# EAGLE library part WMOI3 (library WMOi3)
Wavecom WMOi3 GSM Modem connected with ribbon cable to Harwin M50-3602542 1.27mm Pitch DIL Surface Mount Pin Header.
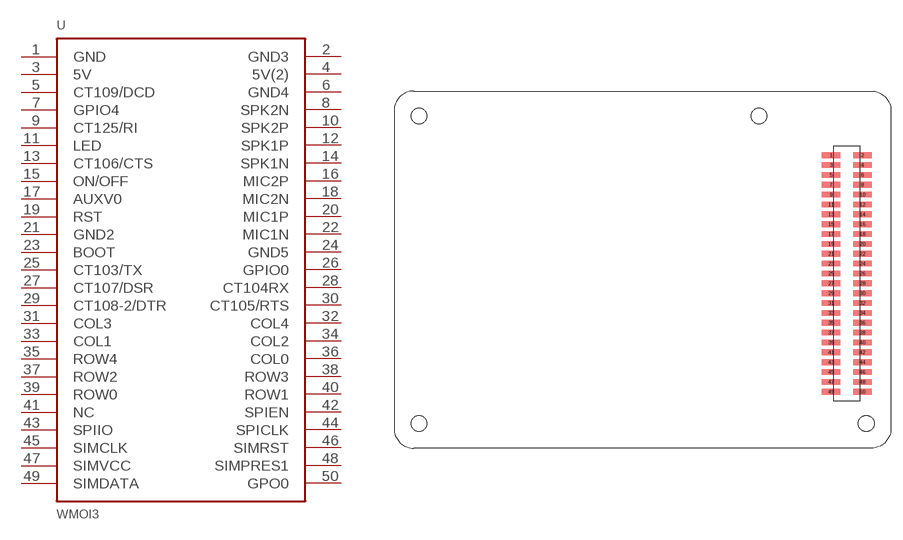
[diagram p0: symbol with the pads of WMOI3; footprint WMOI3]

Designator prefix -

## WMOI3  [WMOI3]
1  GND
2  GND3
3  5V
4  5V(2)
5  CT109/DCD
6  GND4
7  GPIO4
8  SPK2N
9  CT125/RI
10  SPK2P
11  LED
12  SPK1P
13  CT106/CTS
14  SPK1N
15  ON/OFF
16  MIC2P
17  AUXV0
18  MIC2N
19  RST
20  MIC1P
21  GND2
22  MIC1N
23  BOOT
24  GND5
25  CT103/TX
26  GPIO0
27  CT107/DSR
28  CT104RX
29  CT108-2/DTR
30  CT105/RTS
31  COL3
32  COL4
33  COL1
34  COL2
35  ROW4
36  COL0
37  ROW2
38  ROW3
39  ROW0
40  ROW1
41  NC
42  SPIEN
43  SPIIO
44  SPICLK
45  SIMCLK
46  SIMRST
47  SIMVCC
48  SIMPRES1
49  SIMDATA
50  GPO0

## Footprint WMOI3 (pad centres in mm)
smd 2.4 x 0.74: 1 25.4,15.24; 2 29.44,15.24; 3 25.4,13.97; 4 29.44,13.97; 5 25.4,12.7; 6 29.44,12.7; 7 25.4,11.43; 8 29.44,11.43; 9 25.4,10.16; 10 29.44,10.16; 11 25.4,8.89; 12 29.44,8.89; 13 25.4,7.62; 14 29.44,7.62; 15 25.4,6.35; 16 29.44,6.35; 17 25.4,5.08; 18 29.44,5.08; 19 25.4,3.81; 20 29.44,3.81; 21 25.4,2.54; 22 29.44,2.54; 23 25.4,1.27; 24 29.44,1.27; 25 25.4,0; 26 29.44,0; 27 25.4,-1.27; 28 29.44,-1.27; 29 25.4,-2.54; 30 29.44,-2.54; 31 25.4,-3.81; 32 29.44,-3.81; 33 25.4,-5.08; 34 29.44,-5.08; 35 25.4,-6.35; 36 29.44,-6.35; 37 25.4,-7.62; 38 29.44,-7.62; 39 25.4,-8.89; 40 29.44,-8.89; 41 25.4,-10.16; 42 29.44,-10.16; 43 25.4,-11.43; 44 29.44,-11.43; 45 25.4,-12.7; 46 29.44,-12.7; 47 25.4,-13.97; 48 29.44,-13.97; 49 25.4,-15.24; 50 29.44,-15.24
hole 2 at 29.94,-19.33
hole 2 at -27.71,-19.33
hole 2 at -27.71,20.31
hole 2 at 16.12,20.31